# Altium integrated library WE-HCM SMD High Current Flat Wire Inductor.IntLib: 28 symbols
Pins are listed as number, name and electrical type; pins without a type are passive.

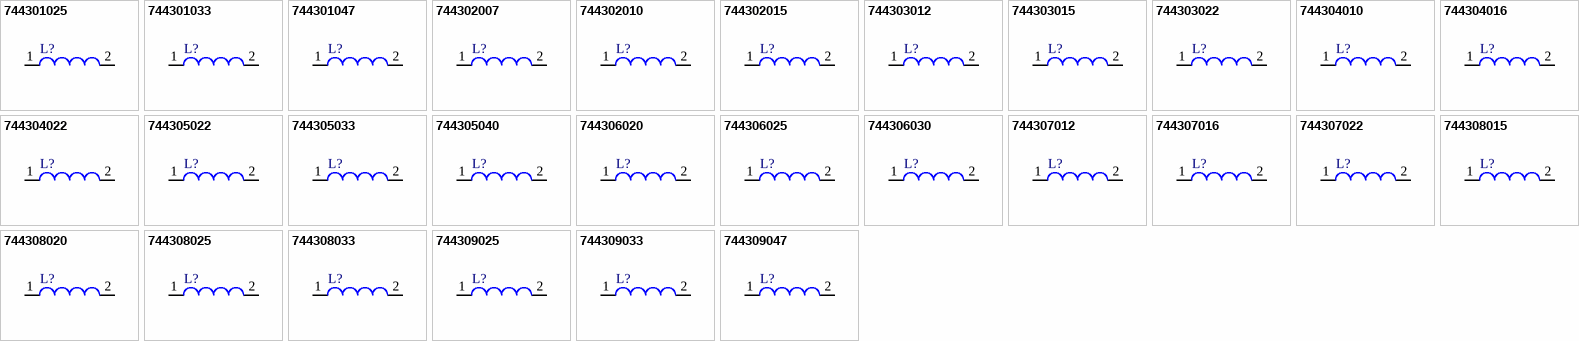
[diagram p0: symbols 744301025 to 744309047]

## 744301025
designator L?
SMD Flat Wire Inductor WE-HCM Hight Current, L=250 nH; PartNumber: 744301025; Inductance: 250 nH; PackageReference: WE-HCM 1190; ComponentLink1Description: Manufacturer URL; ComponentLink1URL: http://www.we-online.com; ComponentLink2Description: Datasheet; ComponentLink2URL: http://katalog-live.we-online.de/pbs/datasheet/744301025.pdf
footprint WE-HCM 1190 (SMD Inductor, 2-Leads, Body 10,50x11,00mm,)
pins: 1, 2

## 744301033
designator L?
SMD Flat Wire Inductor WE-HCM Hight Current, L=330 nH; PartNumber: 744301033; Inductance: 330 nH; PackageReference: WE-HCM 1190; ComponentLink1Description: Manufacturer URL; ComponentLink1URL: http://www.we-online.com; ComponentLink2Description: Datasheet; ComponentLink2URL: http://katalog-live.we-online.de/pbs/datasheet/744301033.pdf
footprint WE-HCM 1190 (SMD Inductor, 2-Leads, Body 10,50x11,00mm,)
pins: 1, 2

## 744301047
designator L?
SMD Flat Wire Inductor WE-HCM Hight Current, L=470 nH; PartNumber: 744301047; Inductance: 470 nH; PackageReference: WE-HCM 1190; ComponentLink1Description: Manufacturer URL; ComponentLink1URL: http://www.we-online.com; ComponentLink2Description: Datasheet; ComponentLink2URL: http://katalog-live.we-online.de/pbs/datasheet/744301047.pdf
footprint WE-HCM 1190 (SMD Inductor, 2-Leads, Body 10,50x11,00mm,)
pins: 1, 2

## 744302007
designator L?
SMD Flat Wire Inductor WE-HCM High Current, L=72.0 nH; PartNumber: 744302007; Inductance: 72.0 nH; DatasheetVersion: ver 1, Jan-2008; PackageReference: WE-HCM-7050; PackageDescription: SMD Inductor, 2-Leads, Body 7.15 x 7.0 mm; ComponentLink1Description: Manufacturer URL; ComponentLink1URL: http://www.we-online.com; ComponentLink2Description: Datasheet; ComponentLink2URL: http://www.we-online.de/katalog/media/pdf/744302007.pdf
footprint WE-HCM-7050 (SMD Inductor, 2-Leads, Body 7.15x7.0x4.7 mm)
pins: 1, 2

## 744302010
designator L?
SMD Flat Wire Inductor WE-HCM High Current, L=105 nH; PartNumber: 744302010; Inductance: 105 nH; DatasheetVersion: ver 1, Jan-2008; PackageReference: WE-HCM-7050; PackageDescription: SMD Inductor, 2-Leads, Body 7.15 x 7.0 mm; ComponentLink1Description: Manufacturer URL; ComponentLink1URL: http://www.we-online.com; ComponentLink2Description: Datasheet; ComponentLink2URL: http://www.we-online.de/katalog/media/pdf/744302010.pdf
footprint WE-HCM-7050 (SMD Inductor, 2-Leads, Body 7.15x7.0x4.7 mm)
pins: 1, 2

## 744302015
designator L?
SMD Flat Wire Inductor WE-HCM High Current, L=150 nH; PartNumber: 744302015; Inductance: 150 nH; DatasheetVersion: ver 2, Jun-2009; PackageReference: WE-HCM-7050; PackageDescription: SMD Inductor, 2-Leads, Body 7.15 x 7.0 mm; ComponentLink1Description: Manufacturer URL; ComponentLink1URL: http://www.we-online.com; ComponentLink2Description: Datasheet; ComponentLink2URL: http://www.we-online.de/katalog/media/pdf/744302015.pdf
footprint WE-HCM-7050 (SMD Inductor, 2-Leads, Body 7.15x7.0x4.7 mm)
pins: 1, 2

## 744303012
designator L?
SMD Flat Wire Inductor WE-HCM High Current, L=120 nH; PartNumber: 744303012; Inductance: 120 nH; DatasheetVersion: ver 1, Dec-2007; PackageReference: WE-HCM-1050; PackageDescription: SMD Inductor, 2-Leads, Body 10.2 x 7.0 mm; ComponentLink1Description: Manufacturer URL; ComponentLink1URL: http://www.we-online.com; ComponentLink2Description: Datasheet; ComponentLink2URL: http://www.we-online.de/katalog/media/pdf/744303012.pdf
footprint WE-HCM-1050 (SMD Inductor, 2-Leads, Body 10.2x7.0x5.0 mm)
pins: 1, 2

## 744303015
designator L?
SMD Flat Wire Inductor WE-HCM High Current, L=155 nH; PartNumber: 744303015; Inductance: 155 nH; DatasheetVersion: ver 1, Dec-2007; PackageReference: WE-HCM-1050; PackageDescription: SMD Inductor, 2-Leads, Body 10.2 x 7.0 mm; ComponentLink1Description: Manufacturer URL; ComponentLink1URL: http://www.we-online.com; ComponentLink2Description: Datasheet; ComponentLink2URL: http://www.we-online.de/katalog/media/pdf/744303015.pdf
footprint WE-HCM-1050 (SMD Inductor, 2-Leads, Body 10.2x7.0x5.0 mm)
pins: 1, 2

## 744303022
designator L?
SMD Flat Wire Inductor WE-HCM High Current, L=220 nH; PartNumber: 744303022; Inductance: 220 nH; DatasheetVersion: ver 1, Dec-2007; PackageReference: WE-HCM-1050; PackageDescription: SMD Inductor, 2-Leads, Body 10.2 x 7.0 mm; ComponentLink1Description: Manufacturer URL; ComponentLink1URL: http://www.we-online.com; ComponentLink2Description: Datasheet; ComponentLink2URL: http://www.we-online.de/katalog/media/pdf/744303022.pdf
footprint WE-HCM-1050 (SMD Inductor, 2-Leads, Body 10.2x7.0x5.0 mm)
pins: 1, 2

## 744304010
designator L?
SMD Flat Wire Inductor WE-HCM High Current, L=100 nH; PartNumber: 744304010; Inductance: 100 nH; DatasheetVersion: ver 1, Aug-2009; PackageReference: WE-HCM-1240; PackageDescription: SMD Inductor, 2-Leads, Body 11.5 x 11.8 mm; ComponentLink1Description: Manufacturer URL; ComponentLink1URL: http://www.we-online.com; ComponentLink2Description: Datasheet; ComponentLink2URL: http://www.we-online.de/katalog/media/pdf/744304010.pdf
footprint WE-HCM-1240 (SMD Inductor, 2-Leads, Body 11.5x11.8x4.0 mm)
pins: 1, 2

## 744304016
designator L?
SMD Flat Wire Inductor WE-HCM High Current, L=160 nH; PartNumber: 744304016; Inductance: 160 nH; DatasheetVersion: ver 1, Aug-2009; PackageReference: WE-HCM-1240; PackageDescription: SMD Inductor, 2-Leads, Body 11.5 x 11.8 mm; ComponentLink1Description: Manufacturer URL; ComponentLink1URL: http://www.we-online.com; ComponentLink2Description: Datasheet; ComponentLink2URL: http://www.we-online.de/katalog/media/pdf/744304016.pdf
footprint WE-HCM-1240 (SMD Inductor, 2-Leads, Body 11.5x11.8x4.0 mm)
pins: 1, 2

## 744304022
designator L?
SMD Flat Wire Inductor WE-HCM High Current, L=220 nH; PartNumber: 744304022; Inductance: 220 nH; DatasheetVersion: ver 1, Aug-2009; PackageReference: WE-HCM-1240; PackageDescription: SMD Inductor, 2-Leads, Body 11.5 x 11.8 mm; ComponentLink1Description: Manufacturer URL; ComponentLink1URL: http://www.we-online.com; ComponentLink2Description: Datasheet; ComponentLink2URL: http://www.we-online.de/katalog/media/pdf/744304022.pdf
footprint WE-HCM-1240 (SMD Inductor, 2-Leads, Body 11.5x11.8x4.0 mm)
pins: 1, 2

## 744305022
designator L?
SMD Flat Wire Inductor WE-HCM High Current, L=220 nH; PartNumber: 744305022; Inductance: 220 nH; DatasheetVersion: ver 1, Jan-2009; PackageReference: WE-HCM-1350; PackageDescription: SMD Inductor, 2-Leads, Body 13.5 x 13.3 mm; ComponentLink1Description: Manufacturer URL; ComponentLink1URL: http://www.we-online.com; ComponentLink2Description: Datasheet; ComponentLink2URL: http://www.we-online.de/katalog/media/pdf/744305022.pdf
footprint WE-HCM-1350 (SMD Inductor, 2-Leads, Body 13.5x13.3x5.2 mm)
pins: 1, 2

## 744305033
designator L?
SMD Flat Wire Inductor WE-HCM High Current, L=330 nH; PartNumber: 744305033; Inductance: 330 nH; DatasheetVersion: ver 1, Jan-2009; PackageReference: WE-HCM-1350; PackageDescription: SMD Inductor, 2-Leads, Body 13.5 x 13.3 mm; ComponentLink1Description: Manufacturer URL; ComponentLink1URL: http://www.we-online.com; ComponentLink2Description: Datasheet; ComponentLink2URL: http://www.we-online.de/katalog/media/pdf/744305033.pdf
footprint WE-HCM-1350 (SMD Inductor, 2-Leads, Body 13.5x13.3x5.2 mm)
pins: 1, 2

## 744305040
designator L?
SMD Flat Wire Inductor WE-HCM High Current, L=400 nH; PartNumber: 744305040; Inductance: 400 nH; DatasheetVersion: ver 1, Jan-2009; PackageReference: WE-HCM-1350; PackageDescription: SMD Inductor, 2-Leads, Body 13.5 x 13.3 mm; ComponentLink1Description: Manufacturer URL; ComponentLink1URL: http://www.we-online.com; ComponentLink2Description: Datasheet; ComponentLink2URL: http://www.we-online.de/katalog/media/pdf/744305040.pdf
footprint WE-HCM-1350 (SMD Inductor, 2-Leads, Body 13.5x13.3x5.2 mm)
pins: 1, 2

## 744306020
designator L?
SMD Flat Wire Inductor WE-HCM High Current, L=200 nH; PartNumber: 744306020; Inductance: 200 nH; DatasheetVersion: ver 1, Jan-2009; PackageReference: WE-HCM-1052; PackageDescription: SMD Inductor, 2-Leads, Body 10.5 x 10.3 mm; ComponentLink1Description: Manufacturer URL; ComponentLink1URL: http://www.we-online.com; ComponentLink2Description: Datasheet; ComponentLink2URL: http://www.we-online.de/katalog/media/pdf/744306020.pdf
footprint WE-HCM-1052 (SMD Inductor, 2-Leads, Body 10.5x10.3x5.5 mm)
pins: 1, 2

## 744306025
designator L?
SMD Flat Wire Inductor WE-HCM High Current, L=250 nH; PartNumber: 744306025; Inductance: 250 nH; DatasheetVersion: ver 1, Jan-2009; PackageReference: WE-HCM-1052; PackageDescription: SMD Inductor, 2-Leads, Body 10.5 x 10.3 mm; ComponentLink1Description: Manufacturer URL; ComponentLink1URL: http://www.we-online.com; ComponentLink2Description: Datasheet; ComponentLink2URL: http://www.we-online.de/katalog/media/pdf/744306025.pdf
footprint WE-HCM-1052 (SMD Inductor, 2-Leads, Body 10.5x10.3x5.5 mm)
pins: 1, 2

## 744306030
designator L?
SMD Flat Wire Inductor WE-HCM High Current, L=300 nH; PartNumber: 744306030; Inductance: 300 nH; DatasheetVersion: ver 1, Jan-2009; PackageReference: WE-HCM-1052; PackageDescription: SMD Inductor, 2-Leads, Body 10.5 x 10.3 mm; ComponentLink1Description: Manufacturer URL; ComponentLink1URL: http://www.we-online.com; ComponentLink2Description: Datasheet; ComponentLink2URL: http://www.we-online.de/katalog/media/pdf/744306030.pdf
footprint WE-HCM-1052 (SMD Inductor, 2-Leads, Body 10.5x10.3x5.5 mm)
pins: 1, 2

## 744307012
designator L?
SMD Flat Wire Inductor WE-HCM High Current, L=120 nH; PartNumber: 744307012; Inductance: 120 nH; DatasheetVersion: ver 1, Jan-2009; PackageReference: WE-HCM-7070; PackageDescription: SMD Inductor, 2-Leads, Body 7.4 x 7.2 mm; ComponentLink1Description: Manufacturer URL; ComponentLink1URL: http://www.we-online.com; ComponentLink2Description: Datasheet; ComponentLink2URL: http://www.we-online.de/katalog/media/pdf/744307012.pdf
footprint WE-HCM-7070 (SMD Inductor, 2-Leads, Body 7.4x7.2x7.2 mm)
pins: 1, 2

## 744307016
designator L?
SMD Flat Wire Inductor WE-HCM High Current, L=160 nH; PartNumber: 744307016; Inductance: 160 nH; DatasheetVersion: ver 1, Jan-2009; PackageReference: WE-HCM-7070; PackageDescription: SMD Inductor, 2-Leads, Body 7.4 x 7.2 mm; ComponentLink1Description: Manufacturer URL; ComponentLink1URL: http://www.we-online.com; ComponentLink2Description: Datasheet; ComponentLink2URL: http://www.we-online.de/katalog/media/pdf/744307016.pdf
footprint WE-HCM-7070 (SMD Inductor, 2-Leads, Body 7.4x7.2x7.2 mm)
pins: 1, 2

## 744307022
designator L?
SMD Flat Wire Inductor WE-HCM High Current, L=220 nH; PartNumber: 744307022; Inductance: 220 nH; DatasheetVersion: ver 1, Jan-2009; PackageReference: WE-HCM-7070; PackageDescription: SMD Inductor, 2-Leads, Body 7.4 x 7.2 mm; ComponentLink1Description: Manufacturer URL; ComponentLink1URL: http://www.we-online.com; ComponentLink2Description: Datasheet; ComponentLink2URL: http://www.we-online.de/katalog/media/pdf/744307022.pdf
footprint WE-HCM-7070 (SMD Inductor, 2-Leads, Body 7.4x7.2x7.2 mm)
pins: 1, 2

## 744308015
designator L?
SMD Flat Wire Inductor WE-HCM High Current, L=150 nH; PartNumber: 744308015; Inductance: 150 nH; DatasheetVersion: ver 1, Jan-2009; PackageReference: WE-HCM-1070; PackageDescription: SMD Inductor, 2-Leads, Body 10.1 x 7.0 mm; ComponentLink1Description: Manufacturer URL; ComponentLink1URL: http://www.we-online.com; ComponentLink2Description: Datasheet; ComponentLink2URL: http://www.we-online.de/katalog/media/pdf/744308015.pdf
footprint WE-HCM-1070 (SMD Inductor, 2-Leads, Body 10.1x7.0x7.0 mm)
pins: 1, 2

## 744308020
designator L?
SMD Flat Wire Inductor WE-HCM High Current, L=200 nH; PartNumber: 744308020; Inductance: 200 nH; DatasheetVersion: ver 1, Jan-2009; PackageReference: WE-HCM-1070; PackageDescription: SMD Inductor, 2-Leads, Body 10.1 x 7.0 mm; ComponentLink1Description: Manufacturer URL; ComponentLink1URL: http://www.we-online.com; ComponentLink2Description: Datasheet; ComponentLink2URL: http://www.we-online.de/katalog/media/pdf/744308020.pdf
footprint WE-HCM-1070 (SMD Inductor, 2-Leads, Body 10.1x7.0x7.0 mm)
pins: 1, 2

## 744308025
designator L?
SMD Flat Wire Inductor WE-HCM High Current, L=250 nH; PartNumber: 744308025; Inductance: 250 nH; DatasheetVersion: ver 1, Jan-2009; PackageReference: WE-HCM-1070; PackageDescription: SMD Inductor, 2-Leads, Body 10.1 x 7.0 mm; ComponentLink1Description: Manufacturer URL; ComponentLink1URL: http://www.we-online.com; ComponentLink2Description: Datasheet; ComponentLink2URL: http://www.we-online.de/katalog/media/pdf/744308025.pdf
footprint WE-HCM-1070 (SMD Inductor, 2-Leads, Body 10.1x7.0x7.0 mm)
pins: 1, 2

## 744308033
designator L?
SMD Flat Wire Inductor WE-HCM High Current, L=330 nH; PartNumber: 744308033; Inductance: 330 nH; DatasheetVersion: ver 1, Jan-2009; PackageReference: WE-HCM-1070; PackageDescription: SMD Inductor, 2-Leads, Body 10.1 x 7.0 mm; ComponentLink1Description: Manufacturer URL; ComponentLink1URL: http://www.we-online.com; ComponentLink2Description: Datasheet; ComponentLink2URL: http://www.we-online.de/katalog/media/pdf/744308033.pdf
footprint WE-HCM-1070 (SMD Inductor, 2-Leads, Body 10.1x7.0x7.0 mm)
pins: 1, 2

## 744309025
designator L?
SMD Flat Wire Inductor WE-HCM Hight Current, L=250 nH; PartNumber: 744309025; Inductance: 250 nH; PackageReference: WE-HCM 1390; ComponentLink1Description: Manufacturer URL; ComponentLink1URL: http://www.we-online.com; ComponentLink2Description: Datasheet; ComponentLink2URL: http://katalog-live.we-online.de/pbs/datasheet/744309025.pdf
footprint WE-HCM 1390 (SMD Inductor, 2-Leads, Body 12,50x13,00mm)
pins: 1, 2

## 744309033
designator L?
SMD Flat Wire Inductor WE-HCM Hight Current, L=330 nH; PartNumber: 744309033; Inductance: 330 nH; PackageReference: WE-HCM 1390; ComponentLink1Description: Manufacturer URL; ComponentLink1URL: http://www.we-online.com; ComponentLink2Description: Datasheet; ComponentLink2URL: http://katalog-live.we-online.de/pbs/datasheet/744309033.pdf
footprint WE-HCM 1390 (SMD Inductor, 2-Leads, Body 12,50x13,00mm)
pins: 1, 2

## 744309047
designator L?
SMD Flat Wire Inductor WE-HCM Hight Current, L=470 nH; PartNumber: 744309047; Inductance: 470 nH; PackageReference: WE-HCM 1390; ComponentLink1Description: Manufacturer URL; ComponentLink1URL: http://www.we-online.com; ComponentLink2Description: Datasheet; ComponentLink2URL: http://katalog-live.we-online.de/pbs/datasheet/744309047.pdf
footprint WE-HCM 1390 (SMD Inductor, 2-Leads, Body 12,50x13,00mm)
pins: 1, 2